# EAGLE library part S7PIN (library jst_eh)
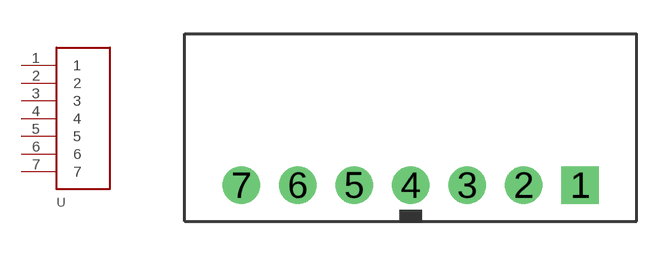
[diagram p11: symbol with the pads of S7B-EH; footprint S7B-EH]

Designator prefix -

## S7PIN  [S7B-EH]
1  1
2  2
3  3
4  4
5  5
6  6
7  7

## Footprint S7B-EH (pad centres in mm)
drill 1.1 square: 1 7.5,0
drill 1.1: 2 5,0; 3 2.5,0; 4 0,0; 5 -2.5,0; 6 -5,0; 7 -7.5,0